# Altium schematic symbol library Relay Module.SchLib: 8 symbols
Pins are listed as number, name and electrical type; pins without a type are passive.

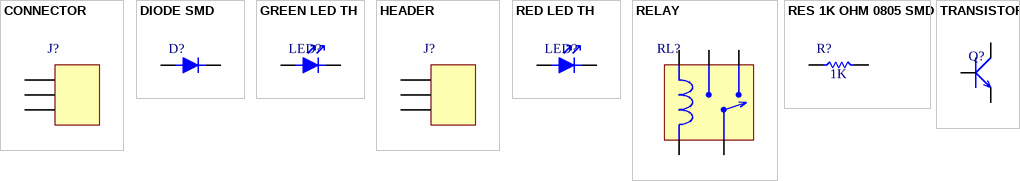
[diagram p0: symbols CONNECTOR to TRANSISTOR]

## CONNECTOR
designator J?, comment OSTTA034163  (value not drawn)
TERM BLK 3P 5.08MM PCB
footprint connector
pins: 1, 2, 3

## DIODE SMD
designator D?, comment S1A  (value not drawn)
DIODE 50V 1A SMD
footprint DIODE
pins: 1, 2

## GREEN LED TH
designator LED?, comment 151031VS06000  (value not drawn)
LED GREEN 3MM TH
footprint GREEN LED
pins: 1, 2

## HEADER
designator J?, comment 61300311121  (value not drawn)
CONN HEADER 3POS 2.54MM
footprint HEADER
pins: 1, 2, 3

## RED LED TH
designator LED?, comment 151031SS06000  (value not drawn)
LED RED 3MM TH
footprint RED LED
pins: 1, 2

## RELAY
designator RL?, comment G5LE-1 DC5  (value not drawn)
RELAY 5VDC COIL 10A
footprint RELAY
pins: 1, 2, 3, 4, 5

## RES 1K OHM 0805 SMD
designator R?, comment value 1K  (hidden comment: RNCP0805FTD1K00)
RES 1K OHM 1% 1/4W 0805
footprint RES 0805
pins: 1, 2

## TRANSISTOR
designator Q?, comment PMBT2222A,215  (value not drawn)
TRANS NPN 30V 0.6A TO236AB
footprint TRANSISTOR
pins: 1, 2, 3